# Altium integrated library TI Amplifiers and Linear Operational Amplifier Fully Differential Amplifier.IntLib: 262 symbols (part 4 of 11)
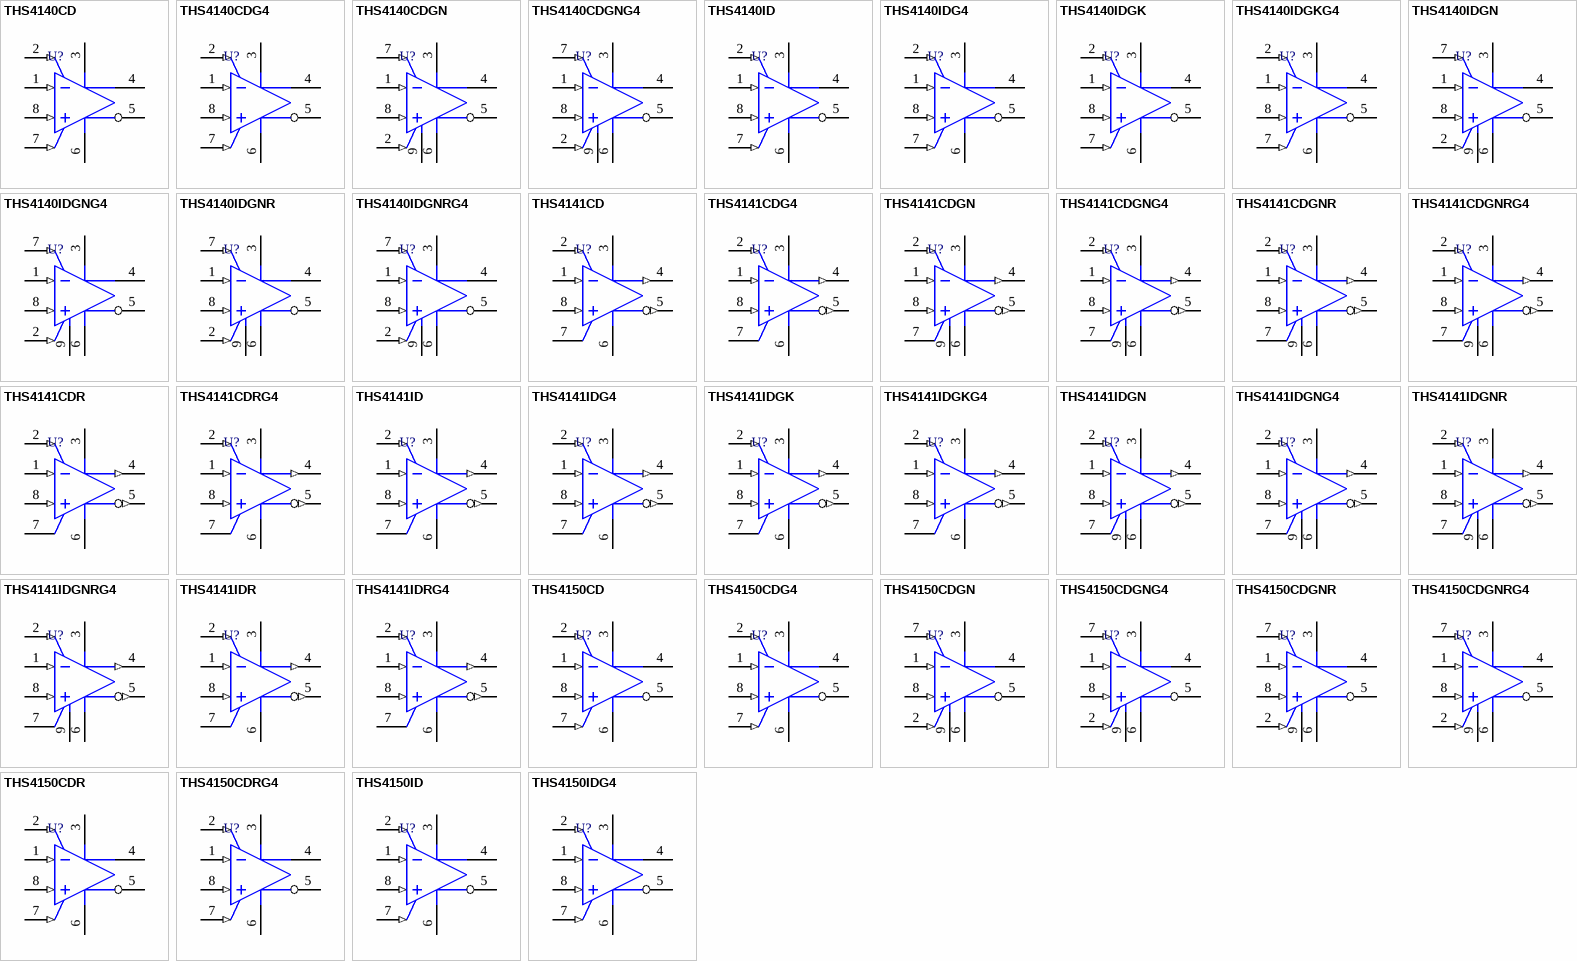
[diagram p10: symbols THS4140CD to THS4150IDG4]

## THS4140CDG4
designator U?
Fully Differential Input / Output High Slew Rate Amplifier with Shutdown, 5 to 30 V, 0 to 70 degC, 8-pin SOIC (D8), Green (RoHS & no Sb/Br); Manufacturer: Texas Instruments; PartNumber: THS4140CDG4; 2nd Harmonic(dBc): 85; 3rd Harmonic(dBc): 79; @ MHz: 1; BW @ Acl(MHz): 160; Iq per channel(Max)(mA): 16; Offset Voltage Drift (+/-)(Max)(uV/Degrees Celsius: 7; Settling Time (0.1%)(Typ)(ns): 96; Slew Rate(Typ)(V/us): 450; SubFamily: Fully Differential Amplifier; THD (Fc is 1 MHz)(Typ)(dB): -78; Vn at Flatband(Typ)(nV/rtHz): 6.5; Vs(Max)(V): 30; Vs(Min)(V): 5; DatasheetVersion: SLOS320F; PackageVersion: 4040047-3/M, 06/2011; PackageReference: D8; PackageDescription: 8-Pin Plastic Small Outline, Body 4.9 x 3.9 mm, Pitch 1.27 mm; Supplier 1: Digi-Key; Supplier Part Number 1: THS4140CDG4-ND; Supplier 2: Newark; Supplier Part Number 2: 81K4022; Supplier 3: Mouser; Supplier Part Number 3: 595-THS4140CDG4; Eco-Plan: Green (RoHS & no Sb/Br); Io(Typ)(mA): 85; Number of Channels: 1; Vio(Max)(mV): 7; Mounting Technology: Surface Mount; Code_JEDEC: MS-012; ComponentLink1Description: Manufacturer URL; ComponentLink1URL: http://www.ti.com/; ComponentLink2Description: Datasheet; ComponentLink2URL: http://www.ti.com/general/docs/lit/getliterature.tsp?genericPartNumber=THS4140&fileType=pdf; ComponentLink3Description: Package Specification; ComponentLink3URL: http://www.ti.com/litv/pdf/msoi002j
footprint TI-D8_N (SOIC, 8-Leads, Body 4.9x3.9mm, Pitch 1.27mm, IPC Medium Density)
footprint TI-D8_L (SOIC, 8-Leads, Body 4.9x3.9mm, Pitch 1.27mm, IPC High Density)
footprint TI-D8_M (SOIC, 8-Leads, Body 4.9x3.9mm, Pitch 1.27mm, IPC Low Density)
pins: 1 VIN- (in), 2 VOCM (in), 3 VCC+ (power), 4 VOUT+ (hiz), 5 VOUT- (hiz), 6 VCC- (power), 7 ~{PD} (in), 8 VIN+ (in)

## THS4140CDGN
designator U?
Fully Differential Input / Output High Slew Rate Amplifier with Shutdown, 5 to 30 V, 0 to 70 degC, 8-pin SOP (DGN8), Green (RoHS & no Sb/Br); Manufacturer: Texas Instruments; PartNumber: THS4140CDGN; 2nd Harmonic(dBc): 85; 3rd Harmonic(dBc): 79; @ MHz: 1; BW @ Acl(MHz): 160; Iq per channel(Max)(mA): 16; Offset Voltage Drift (+/-)(Max)(uV/Degrees Celsius: 7; Settling Time (0.1%)(Typ)(ns): 96; Slew Rate(Typ)(V/us): 450; SubFamily: Fully Differential Amplifier; THD (Fc is 1 MHz)(Typ)(dB): -78; Vn at Flatband(Typ)(nV/rtHz): 6.5; Vs(Max)(V): 30; Vs(Min)(V): 5; DatasheetVersion: SLOS320F; PackageVersion: 4073271/F, 05/2011; PackageReference: DGN8-1760X1425TP; PackageDescription: 8-Pin Plastic Small Outline, Body 3 x 3 mm, Pitch 0.65 mm; Supplier 1: Digi-Key; Supplier Part Number 1: THS4140CDGN-ND; Supplier 2: Mouser; Supplier Part Number 2: 595-THS4140CDGN; Eco-Plan: Green (RoHS & no Sb/Br); Io(Typ)(mA): 85; Number of Channels: 1; Vio(Max)(mV): 7; Mounting Technology: Surface Mount; Code_JEDEC: MO-187; ComponentLink1Description: Manufacturer URL; ComponentLink1URL: http://www.ti.com/; ComponentLink2Description: Datasheet; ComponentLink2URL: http://www.ti.com/general/docs/lit/getliterature.tsp?genericPartNumber=THS4140&fileType=pdf; ComponentLink3Description: Package Specification; ComponentLink3URL: http://www.ti.com/litv/pdf/mpds046e
footprint TI-DGN8-1760X1425TP_N (SOP, 8-Leads, Body 3x3mm, Pitch 0.65mm, Thermal Pad 1.76x1.425mm, IPC Medium Density)
footprint TI-DGN8-1760X1425TP_L (SOP, 8-Leads, Body 3x3mm, Pitch 0.65mm, Thermal Pad 1.76x1.425mm, IPC High Density)
footprint TI-DGN8-1760X1425TP_M (SOP, 8-Leads, Body 3x3mm, Pitch 0.65mm, Thermal Pad 1.76 x 1.425 mm, IPC Low Density)
pins: 1 VIN- (in), 2 VOCM (in), 3 VCC+ (power), 4 VOUT+ (hiz), 5 VOUT- (hiz), 6 VCC- (power), 7 ~{PD} (in), 8 VIN+ (in), 9 EP

## THS4140CDGNG4
designator U?
Fully Differential Input / Output High Slew Rate Amplifier with Shutdown, 5 to 30 V, 0 to 70 degC, 8-pin SOP (DGN8), Green (RoHS & no Sb/Br); Manufacturer: Texas Instruments; PartNumber: THS4140CDGNG4; 2nd Harmonic(dBc): 85; 3rd Harmonic(dBc): 79; @ MHz: 1; BW @ Acl(MHz): 160; Iq per channel(Max)(mA): 16; Offset Voltage Drift (+/-)(Max)(uV/Degrees Celsius: 7; Settling Time (0.1%)(Typ)(ns): 96; Slew Rate(Typ)(V/us): 450; SubFamily: Fully Differential Amplifier; THD (Fc is 1 MHz)(Typ)(dB): -78; Vn at Flatband(Typ)(nV/rtHz): 6.5; Vs(Max)(V): 30; Vs(Min)(V): 5; DatasheetVersion: SLOS320F; PackageVersion: 4073271/F, 05/2011; PackageReference: DGN8-1760X1425TP; PackageDescription: 8-Pin Plastic Small Outline, Body 3 x 3 mm, Pitch 0.65 mm; Supplier 1: Digi-Key; Supplier Part Number 1: THS4140CDGNG4-ND; Supplier 2: Mouser; Supplier Part Number 2: 595-THS4140CDGNG4; Eco-Plan: Green (RoHS & no Sb/Br); Io(Typ)(mA): 85; Number of Channels: 1; Vio(Max)(mV): 7; Mounting Technology: Surface Mount; Code_JEDEC: MO-187; ComponentLink1Description: Manufacturer URL; ComponentLink1URL: http://www.ti.com/; ComponentLink2Description: Datasheet; ComponentLink2URL: http://www.ti.com/general/docs/lit/getliterature.tsp?genericPartNumber=THS4140&fileType=pdf; ComponentLink3Description: Package Specification; ComponentLink3URL: http://www.ti.com/litv/pdf/mpds046e
footprint TI-DGN8-1760X1425TP_N (SOP, 8-Leads, Body 3x3mm, Pitch 0.65mm, Thermal Pad 1.76x1.425mm, IPC Medium Density)
footprint TI-DGN8-1760X1425TP_L (SOP, 8-Leads, Body 3x3mm, Pitch 0.65mm, Thermal Pad 1.76x1.425mm, IPC High Density)
footprint TI-DGN8-1760X1425TP_M (SOP, 8-Leads, Body 3x3mm, Pitch 0.65mm, Thermal Pad 1.76 x 1.425 mm, IPC Low Density)
pins: 1 VIN- (in), 2 VOCM (in), 3 VCC+ (power), 4 VOUT+ (hiz), 5 VOUT- (hiz), 6 VCC- (power), 7 ~{PD} (in), 8 VIN+ (in), 9 EP

## THS4140ID
designator U?
Fully Differential Input / Output High Slew Rate Amplifier with Shutdown, 5 to 30 V, -40 to 85 degC, 8-pin SOIC (D8), Green (RoHS & no Sb/Br); Manufacturer: Texas Instruments; PartNumber: THS4140ID; 2nd Harmonic(dBc): 85; 3rd Harmonic(dBc): 79; @ MHz: 1; BW @ Acl(MHz): 160; Iq per channel(Max)(mA): 16; Offset Voltage Drift (+/-)(Max)(uV/Degrees Celsius: 7; Settling Time (0.1%)(Typ)(ns): 96; Slew Rate(Typ)(V/us): 450; SubFamily: Fully Differential Amplifier; THD (Fc is 1 MHz)(Typ)(dB): -78; Vn at Flatband(Typ)(nV/rtHz): 6.5; Vs(Max)(V): 30; Vs(Min)(V): 5; DatasheetVersion: SLOS320F; PackageVersion: 4040047-3/M, 06/2011; PackageReference: D8; PackageDescription: 8-Pin Plastic Small Outline, Body 4.9 x 3.9 mm, Pitch 1.27 mm; Supplier 1: Digi-Key; Supplier Part Number 1: 296-7555-5-ND; Supplier 2: Newark; Supplier Part Number 2: 76C6420; Supplier 3: Mouser; Supplier Part Number 3: 595-THS4140ID; Eco-Plan: Green (RoHS & no Sb/Br); Io(Typ)(mA): 85; Number of Channels: 1; Vio(Max)(mV): 7; Mounting Technology: Surface Mount; Code_JEDEC: MS-012; ComponentLink1Description: Manufacturer URL; ComponentLink1URL: http://www.ti.com/; ComponentLink2Description: Datasheet; ComponentLink2URL: http://www.ti.com/general/docs/lit/getliterature.tsp?genericPartNumber=THS4140&fileType=pdf; ComponentLink3Description: Package Specification; ComponentLink3URL: http://www.ti.com/litv/pdf/msoi002j
footprint TI-D8_N (SOIC, 8-Leads, Body 4.9x3.9mm, Pitch 1.27mm, IPC Medium Density)
footprint TI-D8_L (SOIC, 8-Leads, Body 4.9x3.9mm, Pitch 1.27mm, IPC High Density)
footprint TI-D8_M (SOIC, 8-Leads, Body 4.9x3.9mm, Pitch 1.27mm, IPC Low Density)
pins: 1 VIN- (in), 2 VOCM (in), 3 VCC+ (power), 4 VOUT+ (hiz), 5 VOUT- (hiz), 6 VCC- (power), 7 ~{PD} (in), 8 VIN+ (in)

## THS4140IDG4
designator U?
Fully Differential Input / Output High Slew Rate Amplifier with Shutdown, 5 to 30 V, -40 to 85 degC, 8-pin SOIC (D8), Green (RoHS & no Sb/Br); Manufacturer: Texas Instruments; PartNumber: THS4140IDG4; 2nd Harmonic(dBc): 85; 3rd Harmonic(dBc): 79; @ MHz: 1; BW @ Acl(MHz): 160; Iq per channel(Max)(mA): 16; Offset Voltage Drift (+/-)(Max)(uV/Degrees Celsius: 7; Settling Time (0.1%)(Typ)(ns): 96; Slew Rate(Typ)(V/us): 450; SubFamily: Fully Differential Amplifier; THD (Fc is 1 MHz)(Typ)(dB): -78; Vn at Flatband(Typ)(nV/rtHz): 6.5; Vs(Max)(V): 30; Vs(Min)(V): 5; DatasheetVersion: SLOS320F; PackageVersion: 4040047-3/M, 06/2011; PackageReference: D8; PackageDescription: 8-Pin Plastic Small Outline, Body 4.9 x 3.9 mm, Pitch 1.27 mm; Supplier 1: Digi-Key; Supplier Part Number 1: THS4140IDG4-ND; Supplier 2: Mouser; Supplier Part Number 2: 595-THS4140IDG4; Eco-Plan: Green (RoHS & no Sb/Br); Io(Typ)(mA): 85; Number of Channels: 1; Vio(Max)(mV): 7; Mounting Technology: Surface Mount; Code_JEDEC: MS-012; ComponentLink1Description: Manufacturer URL; ComponentLink1URL: http://www.ti.com/; ComponentLink2Description: Datasheet; ComponentLink2URL: http://www.ti.com/general/docs/lit/getliterature.tsp?genericPartNumber=THS4140&fileType=pdf; ComponentLink3Description: Package Specification; ComponentLink3URL: http://www.ti.com/litv/pdf/msoi002j
footprint TI-D8_N (SOIC, 8-Leads, Body 4.9x3.9mm, Pitch 1.27mm, IPC Medium Density)
footprint TI-D8_L (SOIC, 8-Leads, Body 4.9x3.9mm, Pitch 1.27mm, IPC High Density)
footprint TI-D8_M (SOIC, 8-Leads, Body 4.9x3.9mm, Pitch 1.27mm, IPC Low Density)
pins: 1 VIN- (in), 2 VOCM (in), 3 VCC+ (power), 4 VOUT+ (hiz), 5 VOUT- (hiz), 6 VCC- (power), 7 ~{PD} (in), 8 VIN+ (in)

## THS4140IDGK
designator U?
Fully Differential Input / Output High Slew Rate Amplifier with Shutdown, 5 to 30 V, -40 to 85 degC, 8-pin SOP (DGK8), Green (RoHS & no Sb/Br); Manufacturer: Texas Instruments; PartNumber: THS4140IDGK; 2nd Harmonic(dBc): 85; 3rd Harmonic(dBc): 79; @ MHz: 1; BW @ Acl(MHz): 160; Iq per channel(Max)(mA): 16; Offset Voltage Drift (+/-)(Max)(uV/Degrees Celsius: 7; Settling Time (0.1%)(Typ)(ns): 96; Slew Rate(Typ)(V/us): 450; SubFamily: Fully Differential Amplifier; THD (Fc is 1 MHz)(Typ)(dB): -78; Vn at Flatband(Typ)(nV/rtHz): 6.5; Vs(Max)(V): 30; Vs(Min)(V): 5; DatasheetVersion: SLOS320F; PackageVersion: 4073329/E, 05/2006; PackageReference: DGK8; PackageDescription: 8-Pin Thin Small Outline, Body 3 x 3 mm, Pitch 0.65 mm; Supplier 1: Digi-Key; Supplier Part Number 1: 296-16778-5-ND; Supplier 2: Newark; Supplier Part Number 2: 01J0851; Supplier 3: Mouser; Supplier Part Number 3: 595-THS4140IDGK; Eco-Plan: Green (RoHS & no Sb/Br); Io(Typ)(mA): 85; Number of Channels: 1; Vio(Max)(mV): 7; Mounting Technology: Surface Mount; Code_JEDEC: MO-187; ComponentLink1Description: Manufacturer URL; ComponentLink1URL: http://www.ti.com/; ComponentLink2Description: Datasheet; ComponentLink2URL: http://www.ti.com/general/docs/lit/getliterature.tsp?genericPartNumber=THS4140&fileType=pdf; ComponentLink3Description: Package Specification; ComponentLink3URL: http://www.ti.com/litv/pdf/mpds028d
footprint TI-DGK8_N (SOP, 8-Leads, Body 3x3mm, Pitch 0.65mm, IPC Medium Density)
footprint TI-DGK8_L (SOP, 8-Leads, Body 3x3mm, Pitch 0.65mm, IPC High Density)
footprint TI-DGK8_M (SOP, 8-Leads, Body 3x3mm, Pitch 0.65mm, IPC Low Density)
pins: 1 VIN- (in), 2 VOCM (in), 3 VCC+ (power), 4 VOUT+ (hiz), 5 VOUT- (hiz), 6 VCC- (power), 7 ~{PD} (in), 8 VIN+ (in)

## THS4140IDGKG4
designator U?
Fully Differential Input / Output High Slew Rate Amplifier with Shutdown, 5 to 30 V, -40 to 85 degC, 8-pin SOP (DGK8), Green (RoHS & no Sb/Br); Manufacturer: Texas Instruments; PartNumber: THS4140IDGKG4; 2nd Harmonic(dBc): 85; 3rd Harmonic(dBc): 79; @ MHz: 1; BW @ Acl(MHz): 160; Iq per channel(Max)(mA): 16; Offset Voltage Drift (+/-)(Max)(uV/Degrees Celsius: 7; Settling Time (0.1%)(Typ)(ns): 96; Slew Rate(Typ)(V/us): 450; SubFamily: Fully Differential Amplifier; THD (Fc is 1 MHz)(Typ)(dB): -78; Vn at Flatband(Typ)(nV/rtHz): 6.5; Vs(Max)(V): 30; Vs(Min)(V): 5; DatasheetVersion: SLOS320F; PackageVersion: 4073329/E, 05/2006; PackageReference: DGK8; PackageDescription: 8-Pin Thin Small Outline, Body 3 x 3 mm, Pitch 0.65 mm; Supplier 1: Digi-Key; Supplier Part Number 1: THS4140IDGKG4-ND; Supplier 2: Newark; Supplier Part Number 2: 81K4023; Supplier 3: Mouser; Supplier Part Number 3: 595-THS4140IDGKG4; Eco-Plan: Green (RoHS & no Sb/Br); Io(Typ)(mA): 85; Number of Channels: 1; Vio(Max)(mV): 7; Mounting Technology: Surface Mount; Code_JEDEC: MO-187; ComponentLink1Description: Manufacturer URL; ComponentLink1URL: http://www.ti.com/; ComponentLink2Description: Datasheet; ComponentLink2URL: http://www.ti.com/general/docs/lit/getliterature.tsp?genericPartNumber=THS4140&fileType=pdf; ComponentLink3Description: Package Specification; ComponentLink3URL: http://www.ti.com/litv/pdf/mpds028d
footprint TI-DGK8_N (SOP, 8-Leads, Body 3x3mm, Pitch 0.65mm, IPC Medium Density)
footprint TI-DGK8_L (SOP, 8-Leads, Body 3x3mm, Pitch 0.65mm, IPC High Density)
footprint TI-DGK8_M (SOP, 8-Leads, Body 3x3mm, Pitch 0.65mm, IPC Low Density)
pins: 1 VIN- (in), 2 VOCM (in), 3 VCC+ (power), 4 VOUT+ (hiz), 5 VOUT- (hiz), 6 VCC- (power), 7 ~{PD} (in), 8 VIN+ (in)

## THS4140IDGN
designator U?
Fully Differential Input / Output High Slew Rate Amplifier with Shutdown, 5 to 30 V, -40 to 85 degC, 8-pin SOP (DGN8), Green (RoHS & no Sb/Br); Manufacturer: Texas Instruments; PartNumber: THS4140IDGN; 2nd Harmonic(dBc): 85; 3rd Harmonic(dBc): 79; @ MHz: 1; BW @ Acl(MHz): 160; Iq per channel(Max)(mA): 16; Offset Voltage Drift (+/-)(Max)(uV/Degrees Celsius: 7; Settling Time (0.1%)(Typ)(ns): 96; Slew Rate(Typ)(V/us): 450; SubFamily: Fully Differential Amplifier; THD (Fc is 1 MHz)(Typ)(dB): -78; Vn at Flatband(Typ)(nV/rtHz): 6.5; Vs(Max)(V): 30; Vs(Min)(V): 5; DatasheetVersion: SLOS320F; PackageVersion: 4073271/F, 05/2011; PackageReference: DGN8-1760X1425TP; PackageDescription: 8-Pin Plastic Small Outline, Body 3 x 3 mm, Pitch 0.65 mm; Supplier 1: Digi-Key; Supplier Part Number 1: THS4140IDGN-ND; Supplier 2: Newark; Supplier Part Number 2: 76C6421; Supplier 3: Mouser; Supplier Part Number 3: 595-THS4140IDGN; Eco-Plan: Green (RoHS & no Sb/Br); Io(Typ)(mA): 85; Number of Channels: 1; Vio(Max)(mV): 7; Mounting Technology: Surface Mount; Code_JEDEC: MO-187; ComponentLink1Description: Manufacturer URL; ComponentLink1URL: http://www.ti.com/; ComponentLink2Description: Datasheet; ComponentLink2URL: http://www.ti.com/general/docs/lit/getliterature.tsp?genericPartNumber=THS4140&fileType=pdf; ComponentLink3Description: Package Specification; ComponentLink3URL: http://www.ti.com/litv/pdf/mpds046e
footprint TI-DGN8-1760X1425TP_N (SOP, 8-Leads, Body 3x3mm, Pitch 0.65mm, Thermal Pad 1.76x1.425mm, IPC Medium Density)
footprint TI-DGN8-1760X1425TP_L (SOP, 8-Leads, Body 3x3mm, Pitch 0.65mm, Thermal Pad 1.76x1.425mm, IPC High Density)
footprint TI-DGN8-1760X1425TP_M (SOP, 8-Leads, Body 3x3mm, Pitch 0.65mm, Thermal Pad 1.76 x 1.425 mm, IPC Low Density)
pins: 1 VIN- (in), 2 VOCM (in), 3 VCC+ (power), 4 VOUT+ (hiz), 5 VOUT- (hiz), 6 VCC- (power), 7 ~{PD} (in), 8 VIN+ (in), 9 EP

## THS4140IDGNG4
designator U?
Fully Differential Input / Output High Slew Rate Amplifier with Shutdown, 5 to 30 V, -40 to 85 degC, 8-pin SOP (DGN8), Green (RoHS & no Sb/Br); Manufacturer: Texas Instruments; PartNumber: THS4140IDGNG4; 2nd Harmonic(dBc): 85; 3rd Harmonic(dBc): 79; @ MHz: 1; BW @ Acl(MHz): 160; Iq per channel(Max)(mA): 16; Offset Voltage Drift (+/-)(Max)(uV/Degrees Celsius: 7; Settling Time (0.1%)(Typ)(ns): 96; Slew Rate(Typ)(V/us): 450; SubFamily: Fully Differential Amplifier; THD (Fc is 1 MHz)(Typ)(dB): -78; Vn at Flatband(Typ)(nV/rtHz): 6.5; Vs(Max)(V): 30; Vs(Min)(V): 5; DatasheetVersion: SLOS320F; PackageVersion: 4073271/F, 05/2011; PackageReference: DGN8-1760X1425TP; PackageDescription: 8-Pin Plastic Small Outline, Body 3 x 3 mm, Pitch 0.65 mm; Supplier 1: Digi-Key; Supplier Part Number 1: THS4140IDGNG4-ND; Supplier 2: Mouser; Supplier Part Number 2: 595-THS4140IDGNG4; Eco-Plan: Green (RoHS & no Sb/Br); Io(Typ)(mA): 85; Number of Channels: 1; Vio(Max)(mV): 7; Mounting Technology: Surface Mount; Code_JEDEC: MO-187; ComponentLink1Description: Manufacturer URL; ComponentLink1URL: http://www.ti.com/; ComponentLink2Description: Datasheet; ComponentLink2URL: http://www.ti.com/general/docs/lit/getliterature.tsp?genericPartNumber=THS4140&fileType=pdf; ComponentLink3Description: Package Specification; ComponentLink3URL: http://www.ti.com/litv/pdf/mpds046e
footprint TI-DGN8-1760X1425TP_N (SOP, 8-Leads, Body 3x3mm, Pitch 0.65mm, Thermal Pad 1.76x1.425mm, IPC Medium Density)
footprint TI-DGN8-1760X1425TP_L (SOP, 8-Leads, Body 3x3mm, Pitch 0.65mm, Thermal Pad 1.76x1.425mm, IPC High Density)
footprint TI-DGN8-1760X1425TP_M (SOP, 8-Leads, Body 3x3mm, Pitch 0.65mm, Thermal Pad 1.76 x 1.425 mm, IPC Low Density)
pins: 1 VIN- (in), 2 VOCM (in), 3 VCC+ (power), 4 VOUT+ (hiz), 5 VOUT- (hiz), 6 VCC- (power), 7 ~{PD} (in), 8 VIN+ (in), 9 EP

## THS4140IDGNR
designator U?
Fully Differential Input / Output High Slew Rate Amplifier with Shutdown, 5 to 30 V, -40 to 85 degC, 8-pin SOP (DGN8), Green (RoHS & no Sb/Br); Manufacturer: Texas Instruments; PartNumber: THS4140IDGNR; 2nd Harmonic(dBc): 85; 3rd Harmonic(dBc): 79; @ MHz: 1; BW @ Acl(MHz): 160; Iq per channel(Max)(mA): 16; Offset Voltage Drift (+/-)(Max)(uV/Degrees Celsius: 7; Settling Time (0.1%)(Typ)(ns): 96; Slew Rate(Typ)(V/us): 450; SubFamily: Fully Differential Amplifier; THD (Fc is 1 MHz)(Typ)(dB): -78; Vn at Flatband(Typ)(nV/rtHz): 6.5; Vs(Max)(V): 30; Vs(Min)(V): 5; DatasheetVersion: SLOS320F; PackageVersion: 4073271/F, 05/2011; PackageReference: DGN8-1760X1425TP; PackageDescription: 8-Pin Plastic Small Outline, Body 3 x 3 mm, Pitch 0.65 mm; Supplier 1: Digi-Key; Supplier Part Number 1: 296-10049-2-ND; Supplier 2: Digi-Key; Supplier Part Number 2: 296-10049-1-ND; Supplier 3: Digi-Key; Supplier Part Number 3: 296-10049-6-ND; Supplier 4: Newark; Supplier Part Number 4: 76C6422; Supplier 5: Mouser; Supplier Part Number 5: 595-THS4140IDGNR; Eco-Plan: Green (RoHS & no Sb/Br); Io(Typ)(mA): 85; Number of Channels: 1; Vio(Max)(mV): 7; Mounting Technology: Surface Mount; Code_JEDEC: MO-187; ComponentLink1Description: Manufacturer URL; ComponentLink1URL: http://www.ti.com/; ComponentLink2Description: Datasheet; ComponentLink2URL: http://www.ti.com/general/docs/lit/getliterature.tsp?genericPartNumber=THS4140&fileType=pdf; ComponentLink3Description: Package Specification; ComponentLink3URL: http://www.ti.com/litv/pdf/mpds046e
footprint TI-DGN8-1760X1425TP_N (SOP, 8-Leads, Body 3x3mm, Pitch 0.65mm, Thermal Pad 1.76x1.425mm, IPC Medium Density)
footprint TI-DGN8-1760X1425TP_L (SOP, 8-Leads, Body 3x3mm, Pitch 0.65mm, Thermal Pad 1.76x1.425mm, IPC High Density)
footprint TI-DGN8-1760X1425TP_M (SOP, 8-Leads, Body 3x3mm, Pitch 0.65mm, Thermal Pad 1.76 x 1.425 mm, IPC Low Density)
pins: 1 VIN- (in), 2 VOCM (in), 3 VCC+ (power), 4 VOUT+ (hiz), 5 VOUT- (hiz), 6 VCC- (power), 7 ~{PD} (in), 8 VIN+ (in), 9 EP

## THS4140IDGNRG4
designator U?
Fully Differential Input / Output High Slew Rate Amplifier with Shutdown, 5 to 30 V, -40 to 85 degC, 8-pin SOP (DGN8), Green (RoHS & no Sb/Br); Manufacturer: Texas Instruments; PartNumber: THS4140IDGNRG4; 2nd Harmonic(dBc): 85; 3rd Harmonic(dBc): 79; @ MHz: 1; BW @ Acl(MHz): 160; Iq per channel(Max)(mA): 16; Offset Voltage Drift (+/-)(Max)(uV/Degrees Celsius: 7; Settling Time (0.1%)(Typ)(ns): 96; Slew Rate(Typ)(V/us): 450; SubFamily: Fully Differential Amplifier; THD (Fc is 1 MHz)(Typ)(dB): -78; Vn at Flatband(Typ)(nV/rtHz): 6.5; Vs(Max)(V): 30; Vs(Min)(V): 5; DatasheetVersion: SLOS320F; PackageVersion: 4073271/F, 05/2011; PackageReference: DGN8-1760X1425TP; PackageDescription: 8-Pin Plastic Small Outline, Body 3 x 3 mm, Pitch 0.65 mm; Supplier 1: Digi-Key; Supplier Part Number 1: THS4140IDGNRG4-ND; Supplier 2: Newark; Supplier Part Number 2: 24K5003; Supplier 3: Mouser; Supplier Part Number 3: 595-THS4140IDGNRG4; Eco-Plan: Green (RoHS & no Sb/Br); Io(Typ)(mA): 85; Number of Channels: 1; Vio(Max)(mV): 7; Mounting Technology: Surface Mount; Code_JEDEC: MO-187; ComponentLink1Description: Manufacturer URL; ComponentLink1URL: http://www.ti.com/; ComponentLink2Description: Datasheet; ComponentLink2URL: http://www.ti.com/general/docs/lit/getliterature.tsp?genericPartNumber=THS4140&fileType=pdf; ComponentLink3Description: Package Specification; ComponentLink3URL: http://www.ti.com/litv/pdf/mpds046e
footprint TI-DGN8-1760X1425TP_N (SOP, 8-Leads, Body 3x3mm, Pitch 0.65mm, Thermal Pad 1.76x1.425mm, IPC Medium Density)
footprint TI-DGN8-1760X1425TP_L (SOP, 8-Leads, Body 3x3mm, Pitch 0.65mm, Thermal Pad 1.76x1.425mm, IPC High Density)
footprint TI-DGN8-1760X1425TP_M (SOP, 8-Leads, Body 3x3mm, Pitch 0.65mm, Thermal Pad 1.76 x 1.425 mm, IPC Low Density)
pins: 1 VIN- (in), 2 VOCM (in), 3 VCC+ (power), 4 VOUT+ (hiz), 5 VOUT- (hiz), 6 VCC- (power), 7 ~{PD} (in), 8 VIN+ (in), 9 EP

## THS4141CD
designator U?
Fully Differential Input / Output High Slew Rate Amplifier, 5 to 30 V, 0 to 70 degC, 8-pin SOIC (D8), Green (RoHS & no Sb/Br); Manufacturer: Texas Instruments; PartNumber: THS4141CD; 2nd Harmonic(dBc): 85; 3rd Harmonic(dBc): 79; @ MHz: 1; BW @ Acl(MHz): 160; Iq per channel(Max)(mA): 16; Offset Voltage Drift (+/-)(Max)(uV/Degrees Celsius: 7; Settling Time (0.1%)(Typ)(ns): 96; Slew Rate(Typ)(V/us): 450; SubFamily: Fully Differential Amplifier; THD (Fc is 1 MHz)(Typ)(dB): -78; Vn at Flatband(Typ)(nV/rtHz): 6.5; Vs(Max)(V): 30; Vs(Min)(V): 5; DatasheetVersion: SLOS320F; PackageVersion: 4040047-3/M, 06/2011; PackageReference: D8; PackageDescription: 8-Pin Plastic Small Outline, Body 4.9 x 3.9 mm, Pitch 1.27 mm; Supplier 1: Digi-Key; Supplier Part Number 1: 296-34218-5-ND; Supplier 2: Newark; Supplier Part Number 2: 76C6424; Supplier 3: Mouser; Supplier Part Number 3: 595-THS4141CD; Eco-Plan: Green (RoHS & no Sb/Br); Io(Typ)(mA): 85; Number of Channels: 1; Vio(Max)(mV): 7; Mounting Technology: Surface Mount; Code_JEDEC: MS-012; ComponentLink1Description: Manufacturer URL; ComponentLink1URL: http://www.ti.com/; ComponentLink2Description: Datasheet; ComponentLink2URL: http://www.ti.com/general/docs/lit/getliterature.tsp?genericPartNumber=THS4141&fileType=pdf; ComponentLink3Description: Package Specification; ComponentLink3URL: http://www.ti.com/litv/pdf/msoi002j
footprint TI-D8_N (SOIC, 8-Leads, Body 4.9x3.9mm, Pitch 1.27mm, IPC Medium Density)
footprint TI-D8_L (SOIC, 8-Leads, Body 4.9x3.9mm, Pitch 1.27mm, IPC High Density)
footprint TI-D8_M (SOIC, 8-Leads, Body 4.9x3.9mm, Pitch 1.27mm, IPC Low Density)
pins: 1 VIN- (in), 2 VOCM (in), 3 VCC+ (power), 4 VOUT+ (out), 5 VOUT- (out), 6 VCC- (power), 7 NC, 8 VIN+ (in)

## THS4141CDG4
designator U?
Fully Differential Input / Output High Slew Rate Amplifier, 5 to 30 V, 0 to 70 degC, 8-pin SOIC (D8), Green (RoHS & no Sb/Br); Manufacturer: Texas Instruments; PartNumber: THS4141CDG4; 2nd Harmonic(dBc): 85; 3rd Harmonic(dBc): 79; @ MHz: 1; BW @ Acl(MHz): 160; Iq per channel(Max)(mA): 16; Offset Voltage Drift (+/-)(Max)(uV/Degrees Celsius: 7; Settling Time (0.1%)(Typ)(ns): 96; Slew Rate(Typ)(V/us): 450; SubFamily: Fully Differential Amplifier; THD (Fc is 1 MHz)(Typ)(dB): -78; Vn at Flatband(Typ)(nV/rtHz): 6.5; Vs(Max)(V): 30; Vs(Min)(V): 5; DatasheetVersion: SLOS320F; PackageVersion: 4040047-3/M, 06/2011; PackageReference: D8; PackageDescription: 8-Pin Plastic Small Outline, Body 4.9 x 3.9 mm, Pitch 1.27 mm; Supplier 1: Digi-Key; Supplier Part Number 1: THS4141CDG4-ND; Supplier 2: Mouser; Supplier Part Number 2: 595-THS4141CDG4; Eco-Plan: Green (RoHS & no Sb/Br); Io(Typ)(mA): 85; Number of Channels: 1; Vio(Max)(mV): 7; Mounting Technology: Surface Mount; Code_JEDEC: MS-012; ComponentLink1Description: Manufacturer URL; ComponentLink1URL: http://www.ti.com/; ComponentLink2Description: Datasheet; ComponentLink2URL: http://www.ti.com/general/docs/lit/getliterature.tsp?genericPartNumber=THS4141&fileType=pdf; ComponentLink3Description: Package Specification; ComponentLink3URL: http://www.ti.com/litv/pdf/msoi002j
footprint TI-D8_N (SOIC, 8-Leads, Body 4.9x3.9mm, Pitch 1.27mm, IPC Medium Density)
footprint TI-D8_L (SOIC, 8-Leads, Body 4.9x3.9mm, Pitch 1.27mm, IPC High Density)
footprint TI-D8_M (SOIC, 8-Leads, Body 4.9x3.9mm, Pitch 1.27mm, IPC Low Density)
pins: 1 VIN- (in), 2 VOCM (in), 3 VCC+ (power), 4 VOUT+ (out), 5 VOUT- (out), 6 VCC- (power), 7 NC, 8 VIN+ (in)

## THS4141CDGN
designator U?
Fully Differential Input / Output High Slew Rate Amplifier, 5 to 30 V, 0 to 70 degC, 8-pin SOP (DGN8), Green (RoHS & no Sb/Br); Manufacturer: Texas Instruments; PartNumber: THS4141CDGN; 2nd Harmonic(dBc): 85; 3rd Harmonic(dBc): 79; @ MHz: 1; BW @ Acl(MHz): 160; Iq per channel(Max)(mA): 16; Offset Voltage Drift (+/-)(Max)(uV/Degrees Celsius: 7; Settling Time (0.1%)(Typ)(ns): 96; Slew Rate(Typ)(V/us): 450; SubFamily: Fully Differential Amplifier; THD (Fc is 1 MHz)(Typ)(dB): -78; Vn at Flatband(Typ)(nV/rtHz): 6.5; Vs(Max)(V): 30; Vs(Min)(V): 5; DatasheetVersion: SLOS320F; PackageVersion: 4073271/F, 05/2011; PackageReference: DGN8-1760X1425TP; PackageDescription: 8-Pin Plastic Small Outline, Body 3 x 3 mm, Pitch 0.65 mm; Supplier 1: Digi-Key; Supplier Part Number 1: THS4141CDGN-ND; Supplier 2: Mouser; Supplier Part Number 2: 595-THS4141CDGN; Eco-Plan: Green (RoHS & no Sb/Br); Io(Typ)(mA): 85; Number of Channels: 1; Vio(Max)(mV): 7; Mounting Technology: Surface Mount; Code_JEDEC: MO-187; ComponentLink1Description: Manufacturer URL; ComponentLink1URL: http://www.ti.com/; ComponentLink2Description: Datasheet; ComponentLink2URL: http://www.ti.com/general/docs/lit/getliterature.tsp?genericPartNumber=THS4141&fileType=pdf; ComponentLink3Description: Package Specification; ComponentLink3URL: http://www.ti.com/litv/pdf/mpds046e
footprint TI-DGN8-1760X1425TP_N (SOP, 8-Leads, Body 3x3mm, Pitch 0.65mm, Thermal Pad 1.76x1.425mm, IPC Medium Density)
footprint TI-DGN8-1760X1425TP_L (SOP, 8-Leads, Body 3x3mm, Pitch 0.65mm, Thermal Pad 1.76x1.425mm, IPC High Density)
footprint TI-DGN8-1760X1425TP_M (SOP, 8-Leads, Body 3x3mm, Pitch 0.65mm, Thermal Pad 1.76 x 1.425 mm, IPC Low Density)
pins: 1 VIN- (in), 2 VOCM (in), 3 VCC+ (power), 4 VOUT+ (out), 5 VOUT- (out), 6 VCC- (power), 7 NC, 8 VIN+ (in), 9 EP

## THS4141CDGNG4
designator U?
Fully Differential Input / Output High Slew Rate Amplifier, 5 to 30 V, 0 to 70 degC, 8-pin SOP (DGN8), Green (RoHS & no Sb/Br); Manufacturer: Texas Instruments; PartNumber: THS4141CDGNG4; 2nd Harmonic(dBc): 85; 3rd Harmonic(dBc): 79; @ MHz: 1; BW @ Acl(MHz): 160; Iq per channel(Max)(mA): 16; Offset Voltage Drift (+/-)(Max)(uV/Degrees Celsius: 7; Settling Time (0.1%)(Typ)(ns): 96; Slew Rate(Typ)(V/us): 450; SubFamily: Fully Differential Amplifier; THD (Fc is 1 MHz)(Typ)(dB): -78; Vn at Flatband(Typ)(nV/rtHz): 6.5; Vs(Max)(V): 30; Vs(Min)(V): 5; DatasheetVersion: SLOS320F; PackageVersion: 4073271/F, 05/2011; PackageReference: DGN8-1760X1425TP; PackageDescription: 8-Pin Plastic Small Outline, Body 3 x 3 mm, Pitch 0.65 mm; Supplier 1: Digi-Key; Supplier Part Number 1: THS4141CDGNG4-ND; Supplier 2: Mouser; Supplier Part Number 2: 595-THS4141CDGNG4; Eco-Plan: Green (RoHS & no Sb/Br); Io(Typ)(mA): 85; Number of Channels: 1; Vio(Max)(mV): 7; Mounting Technology: Surface Mount; Code_JEDEC: MO-187; ComponentLink1Description: Manufacturer URL; ComponentLink1URL: http://www.ti.com/; ComponentLink2Description: Datasheet; ComponentLink2URL: http://www.ti.com/general/docs/lit/getliterature.tsp?genericPartNumber=THS4141&fileType=pdf; ComponentLink3Description: Package Specification; ComponentLink3URL: http://www.ti.com/litv/pdf/mpds046e
footprint TI-DGN8-1760X1425TP_N (SOP, 8-Leads, Body 3x3mm, Pitch 0.65mm, Thermal Pad 1.76x1.425mm, IPC Medium Density)
footprint TI-DGN8-1760X1425TP_L (SOP, 8-Leads, Body 3x3mm, Pitch 0.65mm, Thermal Pad 1.76x1.425mm, IPC High Density)
footprint TI-DGN8-1760X1425TP_M (SOP, 8-Leads, Body 3x3mm, Pitch 0.65mm, Thermal Pad 1.76 x 1.425 mm, IPC Low Density)
pins: 1 VIN- (in), 2 VOCM (in), 3 VCC+ (power), 4 VOUT+ (out), 5 VOUT- (out), 6 VCC- (power), 7 NC, 8 VIN+ (in), 9 EP

## THS4141CDGNR
designator U?
Fully Differential Input / Output High Slew Rate Amplifier, 5 to 30 V, 0 to 70 degC, 8-pin SOP (DGN8), Green (RoHS & no Sb/Br); Manufacturer: Texas Instruments; PartNumber: THS4141CDGNR; 2nd Harmonic(dBc): 85; 3rd Harmonic(dBc): 79; @ MHz: 1; BW @ Acl(MHz): 160; Iq per channel(Max)(mA): 16; Offset Voltage Drift (+/-)(Max)(uV/Degrees Celsius: 7; Settling Time (0.1%)(Typ)(ns): 96; Slew Rate(Typ)(V/us): 450; SubFamily: Fully Differential Amplifier; THD (Fc is 1 MHz)(Typ)(dB): -78; Vn at Flatband(Typ)(nV/rtHz): 6.5; Vs(Max)(V): 30; Vs(Min)(V): 5; DatasheetVersion: SLOS320F; PackageVersion: 4073271/F, 05/2011; PackageReference: DGN8-1760X1425TP; PackageDescription: 8-Pin Plastic Small Outline, Body 3 x 3 mm, Pitch 0.65 mm; Supplier 1: Digi-Key; Supplier Part Number 1: THS4141CDGNR-ND; Supplier 2: Newark; Supplier Part Number 2: 76C6426; Supplier 3: Mouser; Supplier Part Number 3: 595-THS4141CDGNR; Eco-Plan: Green (RoHS & no Sb/Br); Io(Typ)(mA): 85; Number of Channels: 1; Vio(Max)(mV): 7; Mounting Technology: Surface Mount; Code_JEDEC: MO-187; ComponentLink1Description: Manufacturer URL; ComponentLink1URL: http://www.ti.com/; ComponentLink2Description: Datasheet; ComponentLink2URL: http://www.ti.com/general/docs/lit/getliterature.tsp?genericPartNumber=THS4141&fileType=pdf; ComponentLink3Description: Package Specification; ComponentLink3URL: http://www.ti.com/litv/pdf/mpds046e
footprint TI-DGN8-1760X1425TP_N (SOP, 8-Leads, Body 3x3mm, Pitch 0.65mm, Thermal Pad 1.76x1.425mm, IPC Medium Density)
footprint TI-DGN8-1760X1425TP_L (SOP, 8-Leads, Body 3x3mm, Pitch 0.65mm, Thermal Pad 1.76x1.425mm, IPC High Density)
footprint TI-DGN8-1760X1425TP_M (SOP, 8-Leads, Body 3x3mm, Pitch 0.65mm, Thermal Pad 1.76 x 1.425 mm, IPC Low Density)
pins: 1 VIN- (in), 2 VOCM (in), 3 VCC+ (power), 4 VOUT+ (out), 5 VOUT- (out), 6 VCC- (power), 7 NC, 8 VIN+ (in), 9 EP

## THS4141CDGNRG4
designator U?
Fully Differential Input / Output High Slew Rate Amplifier, 5 to 30 V, 0 to 70 degC, 8-pin SOP (DGN8), Green (RoHS & no Sb/Br); Manufacturer: Texas Instruments; PartNumber: THS4141CDGNRG4; 2nd Harmonic(dBc): 85; 3rd Harmonic(dBc): 79; @ MHz: 1; BW @ Acl(MHz): 160; Iq per channel(Max)(mA): 16; Offset Voltage Drift (+/-)(Max)(uV/Degrees Celsius: 7; Settling Time (0.1%)(Typ)(ns): 96; Slew Rate(Typ)(V/us): 450; SubFamily: Fully Differential Amplifier; THD (Fc is 1 MHz)(Typ)(dB): -78; Vn at Flatband(Typ)(nV/rtHz): 6.5; Vs(Max)(V): 30; Vs(Min)(V): 5; DatasheetVersion: SLOS320F; PackageVersion: 4073271/F, 05/2011; PackageReference: DGN8-1760X1425TP; PackageDescription: 8-Pin Plastic Small Outline, Body 3 x 3 mm, Pitch 0.65 mm; Supplier 1: Digi-Key; Supplier Part Number 1: THS4141CDGNRG4-ND; Supplier 2: Mouser; Supplier Part Number 2: 595-THS4141CDGNRG4; Eco-Plan: Green (RoHS & no Sb/Br); Io(Typ)(mA): 85; Number of Channels: 1; Vio(Max)(mV): 7; Mounting Technology: Surface Mount; Code_JEDEC: MO-187; ComponentLink1Description: Manufacturer URL; ComponentLink1URL: http://www.ti.com/; ComponentLink2Description: Datasheet; ComponentLink2URL: http://www.ti.com/general/docs/lit/getliterature.tsp?genericPartNumber=THS4141&fileType=pdf; ComponentLink3Description: Package Specification; ComponentLink3URL: http://www.ti.com/litv/pdf/mpds046e
footprint TI-DGN8-1760X1425TP_N (SOP, 8-Leads, Body 3x3mm, Pitch 0.65mm, Thermal Pad 1.76x1.425mm, IPC Medium Density)
footprint TI-DGN8-1760X1425TP_L (SOP, 8-Leads, Body 3x3mm, Pitch 0.65mm, Thermal Pad 1.76x1.425mm, IPC High Density)
footprint TI-DGN8-1760X1425TP_M (SOP, 8-Leads, Body 3x3mm, Pitch 0.65mm, Thermal Pad 1.76 x 1.425 mm, IPC Low Density)
pins: 1 VIN- (in), 2 VOCM (in), 3 VCC+ (power), 4 VOUT+ (out), 5 VOUT- (out), 6 VCC- (power), 7 NC, 8 VIN+ (in), 9 EP

## THS4141CDR
designator U?
Fully Differential Input / Output High Slew Rate Amplifier, 5 to 30 V, 0 to 70 degC, 8-pin SOIC (D8), Green (RoHS & no Sb/Br); Manufacturer: Texas Instruments; PartNumber: THS4141CDR; 2nd Harmonic(dBc): 85; 3rd Harmonic(dBc): 79; @ MHz: 1; BW @ Acl(MHz): 160; Iq per channel(Max)(mA): 16; Offset Voltage Drift (+/-)(Max)(uV/Degrees Celsius: 7; Settling Time (0.1%)(Typ)(ns): 96; Slew Rate(Typ)(V/us): 450; SubFamily: Fully Differential Amplifier; THD (Fc is 1 MHz)(Typ)(dB): -78; Vn at Flatband(Typ)(nV/rtHz): 6.5; Vs(Max)(V): 30; Vs(Min)(V): 5; DatasheetVersion: SLOS320F; PackageVersion: 4040047-3/M, 06/2011; PackageReference: D8; PackageDescription: 8-Pin Plastic Small Outline, Body 4.9 x 3.9 mm, Pitch 1.27 mm; Supplier 1: Digi-Key; Supplier Part Number 1: THS4141CDR-ND; Supplier 2: Mouser; Supplier Part Number 2: 595-THS4141CDR; Eco-Plan: Green (RoHS & no Sb/Br); Io(Typ)(mA): 85; Number of Channels: 1; Vio(Max)(mV): 7; Mounting Technology: Surface Mount; Code_JEDEC: MS-012; ComponentLink1Description: Manufacturer URL; ComponentLink1URL: http://www.ti.com/; ComponentLink2Description: Datasheet; ComponentLink2URL: http://www.ti.com/general/docs/lit/getliterature.tsp?genericPartNumber=THS4141&fileType=pdf; ComponentLink3Description: Package Specification; ComponentLink3URL: http://www.ti.com/litv/pdf/msoi002j
footprint TI-D8_N (SOIC, 8-Leads, Body 4.9x3.9mm, Pitch 1.27mm, IPC Medium Density)
footprint TI-D8_L (SOIC, 8-Leads, Body 4.9x3.9mm, Pitch 1.27mm, IPC High Density)
footprint TI-D8_M (SOIC, 8-Leads, Body 4.9x3.9mm, Pitch 1.27mm, IPC Low Density)
pins: 1 VIN- (in), 2 VOCM (in), 3 VCC+ (power), 4 VOUT+ (out), 5 VOUT- (out), 6 VCC- (power), 7 NC, 8 VIN+ (in)

## THS4141CDRG4
designator U?
Fully Differential Input / Output High Slew Rate Amplifier, 5 to 30 V, 0 to 70 degC, 8-pin SOIC (D8), Green (RoHS & no Sb/Br); Manufacturer: Texas Instruments; PartNumber: THS4141CDRG4; 2nd Harmonic(dBc): 85; 3rd Harmonic(dBc): 79; @ MHz: 1; BW @ Acl(MHz): 160; Iq per channel(Max)(mA): 16; Offset Voltage Drift (+/-)(Max)(uV/Degrees Celsius: 7; Settling Time (0.1%)(Typ)(ns): 96; Slew Rate(Typ)(V/us): 450; SubFamily: Fully Differential Amplifier; THD (Fc is 1 MHz)(Typ)(dB): -78; Vn at Flatband(Typ)(nV/rtHz): 6.5; Vs(Max)(V): 30; Vs(Min)(V): 5; DatasheetVersion: SLOS320F; PackageVersion: 4040047-3/M, 06/2011; PackageReference: D8; PackageDescription: 8-Pin Plastic Small Outline, Body 4.9 x 3.9 mm, Pitch 1.27 mm; Supplier 1: Digi-Key; Supplier Part Number 1: THS4141CDRG4-ND; Supplier 2: Mouser; Supplier Part Number 2: 595-THS4141CDRG4; Eco-Plan: Green (RoHS & no Sb/Br); Io(Typ)(mA): 85; Number of Channels: 1; Vio(Max)(mV): 7; Mounting Technology: Surface Mount; Code_JEDEC: MS-012; ComponentLink1Description: Manufacturer URL; ComponentLink1URL: http://www.ti.com/; ComponentLink2Description: Datasheet; ComponentLink2URL: http://www.ti.com/general/docs/lit/getliterature.tsp?genericPartNumber=THS4141&fileType=pdf; ComponentLink3Description: Package Specification; ComponentLink3URL: http://www.ti.com/litv/pdf/msoi002j
footprint TI-D8_N (SOIC, 8-Leads, Body 4.9x3.9mm, Pitch 1.27mm, IPC Medium Density)
footprint TI-D8_L (SOIC, 8-Leads, Body 4.9x3.9mm, Pitch 1.27mm, IPC High Density)
footprint TI-D8_M (SOIC, 8-Leads, Body 4.9x3.9mm, Pitch 1.27mm, IPC Low Density)
pins: 1 VIN- (in), 2 VOCM (in), 3 VCC+ (power), 4 VOUT+ (out), 5 VOUT- (out), 6 VCC- (power), 7 NC, 8 VIN+ (in)

## THS4141ID
designator U?
Fully Differential Input / Output High Slew Rate Amplifier, 5 to 30 V, -40 to 85 degC, 8-pin SOIC (D8), Green (RoHS & no Sb/Br); Manufacturer: Texas Instruments; PartNumber: THS4141ID; 2nd Harmonic(dBc): 85; 3rd Harmonic(dBc): 79; @ MHz: 1; BW @ Acl(MHz): 160; Iq per channel(Max)(mA): 16; Offset Voltage Drift (+/-)(Max)(uV/Degrees Celsius: 7; Settling Time (0.1%)(Typ)(ns): 96; Slew Rate(Typ)(V/us): 450; SubFamily: Fully Differential Amplifier; THD (Fc is 1 MHz)(Typ)(dB): -78; Vn at Flatband(Typ)(nV/rtHz): 6.5; Vs(Max)(V): 30; Vs(Min)(V): 5; DatasheetVersion: SLOS320F; PackageVersion: 4040047-3/M, 06/2011; PackageReference: D8; PackageDescription: 8-Pin Plastic Small Outline, Body 4.9 x 3.9 mm, Pitch 1.27 mm; Supplier 1: Digi-Key; Supplier Part Number 1: 296-7556-5-ND; Supplier 2: Newark; Supplier Part Number 2: 29C2024; Supplier 3: Mouser; Supplier Part Number 3: 595-THS4141ID; Eco-Plan: Green (RoHS & no Sb/Br); Io(Typ)(mA): 85; Number of Channels: 1; Vio(Max)(mV): 7; Mounting Technology: Surface Mount; Code_JEDEC: MS-012; ComponentLink1Description: Manufacturer URL; ComponentLink1URL: http://www.ti.com/; ComponentLink2Description: Datasheet; ComponentLink2URL: http://www.ti.com/general/docs/lit/getliterature.tsp?genericPartNumber=THS4141&fileType=pdf; ComponentLink3Description: Package Specification; ComponentLink3URL: http://www.ti.com/litv/pdf/msoi002j
footprint TI-D8_N (SOIC, 8-Leads, Body 4.9x3.9mm, Pitch 1.27mm, IPC Medium Density)
footprint TI-D8_L (SOIC, 8-Leads, Body 4.9x3.9mm, Pitch 1.27mm, IPC High Density)
footprint TI-D8_M (SOIC, 8-Leads, Body 4.9x3.9mm, Pitch 1.27mm, IPC Low Density)
pins: 1 VIN- (in), 2 VOCM (in), 3 VCC+ (power), 4 VOUT+ (out), 5 VOUT- (out), 6 VCC- (power), 7 NC, 8 VIN+ (in)

## THS4141IDG4
designator U?
Fully Differential Input / Output High Slew Rate Amplifier, 5 to 30 V, -40 to 85 degC, 8-pin SOIC (D8), Green (RoHS & no Sb/Br); Manufacturer: Texas Instruments; PartNumber: THS4141IDG4; 2nd Harmonic(dBc): 85; 3rd Harmonic(dBc): 79; @ MHz: 1; BW @ Acl(MHz): 160; Iq per channel(Max)(mA): 16; Offset Voltage Drift (+/-)(Max)(uV/Degrees Celsius: 7; Settling Time (0.1%)(Typ)(ns): 96; Slew Rate(Typ)(V/us): 450; SubFamily: Fully Differential Amplifier; THD (Fc is 1 MHz)(Typ)(dB): -78; Vn at Flatband(Typ)(nV/rtHz): 6.5; Vs(Max)(V): 30; Vs(Min)(V): 5; DatasheetVersion: SLOS320F; PackageVersion: 4040047-3/M, 06/2011; PackageReference: D8; PackageDescription: 8-Pin Plastic Small Outline, Body 4.9 x 3.9 mm, Pitch 1.27 mm; Supplier 1: Digi-Key; Supplier Part Number 1: THS4141IDG4-ND; Supplier 2: Mouser; Supplier Part Number 2: 595-THS4141IDG4; Eco-Plan: Green (RoHS & no Sb/Br); Io(Typ)(mA): 85; Number of Channels: 1; Vio(Max)(mV): 7; Mounting Technology: Surface Mount; Code_JEDEC: MS-012; ComponentLink1Description: Manufacturer URL; ComponentLink1URL: http://www.ti.com/; ComponentLink2Description: Datasheet; ComponentLink2URL: http://www.ti.com/general/docs/lit/getliterature.tsp?genericPartNumber=THS4141&fileType=pdf; ComponentLink3Description: Package Specification; ComponentLink3URL: http://www.ti.com/litv/pdf/msoi002j
footprint TI-D8_N (SOIC, 8-Leads, Body 4.9x3.9mm, Pitch 1.27mm, IPC Medium Density)
footprint TI-D8_L (SOIC, 8-Leads, Body 4.9x3.9mm, Pitch 1.27mm, IPC High Density)
footprint TI-D8_M (SOIC, 8-Leads, Body 4.9x3.9mm, Pitch 1.27mm, IPC Low Density)
pins: 1 VIN- (in), 2 VOCM (in), 3 VCC+ (power), 4 VOUT+ (out), 5 VOUT- (out), 6 VCC- (power), 7 NC, 8 VIN+ (in)

## THS4141IDGK
designator U?
Fully Differential Input / Output High Slew Rate Amplifier, 5 to 30 V, -40 to 85 degC, 8-pin SOP (DGK8), Green (RoHS & no Sb/Br); Manufacturer: Texas Instruments; PartNumber: THS4141IDGK; 2nd Harmonic(dBc): 85; 3rd Harmonic(dBc): 79; @ MHz: 1; BW @ Acl(MHz): 160; Iq per channel(Max)(mA): 16; Offset Voltage Drift (+/-)(Max)(uV/Degrees Celsius: 7; Settling Time (0.1%)(Typ)(ns): 96; Slew Rate(Typ)(V/us): 450; SubFamily: Fully Differential Amplifier; THD (Fc is 1 MHz)(Typ)(dB): -78; Vn at Flatband(Typ)(nV/rtHz): 6.5; Vs(Max)(V): 30; Vs(Min)(V): 5; DatasheetVersion: SLOS320F; PackageVersion: 4073329/E, 05/2006; PackageReference: DGK8; PackageDescription: 8-Pin Thin Small Outline, Body 3 x 3 mm, Pitch 0.65 mm; Supplier 1: Digi-Key; Supplier Part Number 1: 296-16779-5-ND; Supplier 2: Mouser; Supplier Part Number 2: 595-THS4141IDGK; Eco-Plan: Green (RoHS & no Sb/Br); Io(Typ)(mA): 85; Number of Channels: 1; Vio(Max)(mV): 7; Mounting Technology: Surface Mount; Code_JEDEC: MO-187; ComponentLink1Description: Manufacturer URL; ComponentLink1URL: http://www.ti.com/; ComponentLink2Description: Datasheet; ComponentLink2URL: http://www.ti.com/general/docs/lit/getliterature.tsp?genericPartNumber=THS4141&fileType=pdf; ComponentLink3Description: Package Specification; ComponentLink3URL: http://www.ti.com/litv/pdf/mpds028d
footprint TI-DGK8_N (SOP, 8-Leads, Body 3x3mm, Pitch 0.65mm, IPC Medium Density)
footprint TI-DGK8_L (SOP, 8-Leads, Body 3x3mm, Pitch 0.65mm, IPC High Density)
footprint TI-DGK8_M (SOP, 8-Leads, Body 3x3mm, Pitch 0.65mm, IPC Low Density)
pins: 1 VIN- (in), 2 VOCM (in), 3 VCC+ (power), 4 VOUT+ (out), 5 VOUT- (out), 6 VCC- (power), 7 NC, 8 VIN+ (in)

## THS4141IDGKG4
designator U?
Fully Differential Input / Output High Slew Rate Amplifier, 5 to 30 V, -40 to 85 degC, 8-pin SOP (DGK8), Green (RoHS & no Sb/Br); Manufacturer: Texas Instruments; PartNumber: THS4141IDGKG4; 2nd Harmonic(dBc): 85; 3rd Harmonic(dBc): 79; @ MHz: 1; BW @ Acl(MHz): 160; Iq per channel(Max)(mA): 16; Offset Voltage Drift (+/-)(Max)(uV/Degrees Celsius: 7; Settling Time (0.1%)(Typ)(ns): 96; Slew Rate(Typ)(V/us): 450; SubFamily: Fully Differential Amplifier; THD (Fc is 1 MHz)(Typ)(dB): -78; Vn at Flatband(Typ)(nV/rtHz): 6.5; Vs(Max)(V): 30; Vs(Min)(V): 5; DatasheetVersion: SLOS320F; PackageVersion: 4073329/E, 05/2006; PackageReference: DGK8; PackageDescription: 8-Pin Thin Small Outline, Body 3 x 3 mm, Pitch 0.65 mm; Supplier 1: Digi-Key; Supplier Part Number 1: THS4141IDGKG4-ND; Supplier 2: Mouser; Supplier Part Number 2: 595-THS4141IDGKG4; Eco-Plan: Green (RoHS & no Sb/Br); Io(Typ)(mA): 85; Number of Channels: 1; Vio(Max)(mV): 7; Mounting Technology: Surface Mount; Code_JEDEC: MO-187; ComponentLink1Description: Manufacturer URL; ComponentLink1URL: http://www.ti.com/; ComponentLink2Description: Datasheet; ComponentLink2URL: http://www.ti.com/general/docs/lit/getliterature.tsp?genericPartNumber=THS4141&fileType=pdf; ComponentLink3Description: Package Specification; ComponentLink3URL: http://www.ti.com/litv/pdf/mpds028d
footprint TI-DGK8_N (SOP, 8-Leads, Body 3x3mm, Pitch 0.65mm, IPC Medium Density)
footprint TI-DGK8_L (SOP, 8-Leads, Body 3x3mm, Pitch 0.65mm, IPC High Density)
footprint TI-DGK8_M (SOP, 8-Leads, Body 3x3mm, Pitch 0.65mm, IPC Low Density)
pins: 1 VIN- (in), 2 VOCM (in), 3 VCC+ (power), 4 VOUT+ (out), 5 VOUT- (out), 6 VCC- (power), 7 NC, 8 VIN+ (in)

## THS4141IDGN
designator U?
Fully Differential Input / Output High Slew Rate Amplifier, 5 to 30 V, -40 to 85 degC, 8-pin SOP (DGN8), Green (RoHS & no Sb/Br); Manufacturer: Texas Instruments; PartNumber: THS4141IDGN; 2nd Harmonic(dBc): 85; 3rd Harmonic(dBc): 79; @ MHz: 1; BW @ Acl(MHz): 160; Iq per channel(Max)(mA): 16; Offset Voltage Drift (+/-)(Max)(uV/Degrees Celsius: 7; Settling Time (0.1%)(Typ)(ns): 96; Slew Rate(Typ)(V/us): 450; SubFamily: Fully Differential Amplifier; THD (Fc is 1 MHz)(Typ)(dB): -78; Vn at Flatband(Typ)(nV/rtHz): 6.5; Vs(Max)(V): 30; Vs(Min)(V): 5; DatasheetVersion: SLOS320F; PackageVersion: 4073271/F, 05/2011; PackageReference: DGN8-1760X1425TP; PackageDescription: 8-Pin Plastic Small Outline, Body 3 x 3 mm, Pitch 0.65 mm; Supplier 1: Digi-Key; Supplier Part Number 1: 296-34219-5-ND; Supplier 2: Newark; Supplier Part Number 2: 76C6429; Supplier 3: Mouser; Supplier Part Number 3: 595-THS4141IDGN; Eco-Plan: Green (RoHS & no Sb/Br); Io(Typ)(mA): 85; Number of Channels: 1; Vio(Max)(mV): 7; Mounting Technology: Surface Mount; Code_JEDEC: MO-187; ComponentLink1Description: Manufacturer URL; ComponentLink1URL: http://www.ti.com/; ComponentLink2Description: Datasheet; ComponentLink2URL: http://www.ti.com/general/docs/lit/getliterature.tsp?genericPartNumber=THS4141&fileType=pdf; ComponentLink3Description: Package Specification; ComponentLink3URL: http://www.ti.com/litv/pdf/mpds046e
footprint TI-DGN8-1760X1425TP_N (SOP, 8-Leads, Body 3x3mm, Pitch 0.65mm, Thermal Pad 1.76x1.425mm, IPC Medium Density)
footprint TI-DGN8-1760X1425TP_L (SOP, 8-Leads, Body 3x3mm, Pitch 0.65mm, Thermal Pad 1.76x1.425mm, IPC High Density)
footprint TI-DGN8-1760X1425TP_M (SOP, 8-Leads, Body 3x3mm, Pitch 0.65mm, Thermal Pad 1.76 x 1.425 mm, IPC Low Density)
pins: 1 VIN- (in), 2 VOCM (in), 3 VCC+ (power), 4 VOUT+ (out), 5 VOUT- (out), 6 VCC- (power), 7 NC, 8 VIN+ (in), 9 EP

## THS4141IDGNG4
designator U?
Fully Differential Input / Output High Slew Rate Amplifier, 5 to 30 V, -40 to 85 degC, 8-pin SOP (DGN8), Green (RoHS & no Sb/Br); Manufacturer: Texas Instruments; PartNumber: THS4141IDGNG4; 2nd Harmonic(dBc): 85; 3rd Harmonic(dBc): 79; @ MHz: 1; BW @ Acl(MHz): 160; Iq per channel(Max)(mA): 16; Offset Voltage Drift (+/-)(Max)(uV/Degrees Celsius: 7; Settling Time (0.1%)(Typ)(ns): 96; Slew Rate(Typ)(V/us): 450; SubFamily: Fully Differential Amplifier; THD (Fc is 1 MHz)(Typ)(dB): -78; Vn at Flatband(Typ)(nV/rtHz): 6.5; Vs(Max)(V): 30; Vs(Min)(V): 5; DatasheetVersion: SLOS320F; PackageVersion: 4073271/F, 05/2011; PackageReference: DGN8-1760X1425TP; PackageDescription: 8-Pin Plastic Small Outline, Body 3 x 3 mm, Pitch 0.65 mm; Supplier 1: Digi-Key; Supplier Part Number 1: THS4141IDGNG4-ND; Supplier 2: Mouser; Supplier Part Number 2: 595-THS4141IDGNG4; Eco-Plan: Green (RoHS & no Sb/Br); Io(Typ)(mA): 85; Number of Channels: 1; Vio(Max)(mV): 7; Mounting Technology: Surface Mount; Code_JEDEC: MO-187; ComponentLink1Description: Manufacturer URL; ComponentLink1URL: http://www.ti.com/; ComponentLink2Description: Datasheet; ComponentLink2URL: http://www.ti.com/general/docs/lit/getliterature.tsp?genericPartNumber=THS4141&fileType=pdf; ComponentLink3Description: Package Specification; ComponentLink3URL: http://www.ti.com/litv/pdf/mpds046e
footprint TI-DGN8-1760X1425TP_N (SOP, 8-Leads, Body 3x3mm, Pitch 0.65mm, Thermal Pad 1.76x1.425mm, IPC Medium Density)
footprint TI-DGN8-1760X1425TP_L (SOP, 8-Leads, Body 3x3mm, Pitch 0.65mm, Thermal Pad 1.76x1.425mm, IPC High Density)
footprint TI-DGN8-1760X1425TP_M (SOP, 8-Leads, Body 3x3mm, Pitch 0.65mm, Thermal Pad 1.76 x 1.425 mm, IPC Low Density)
pins: 1 VIN- (in), 2 VOCM (in), 3 VCC+ (power), 4 VOUT+ (out), 5 VOUT- (out), 6 VCC- (power), 7 NC, 8 VIN+ (in), 9 EP

## THS4141IDGNR
designator U?
Fully Differential Input / Output High Slew Rate Amplifier, 5 to 30 V, -40 to 85 degC, 8-pin SOP (DGN8), Green (RoHS & no Sb/Br); Manufacturer: Texas Instruments; PartNumber: THS4141IDGNR; 2nd Harmonic(dBc): 85; 3rd Harmonic(dBc): 79; @ MHz: 1; BW @ Acl(MHz): 160; Iq per channel(Max)(mA): 16; Offset Voltage Drift (+/-)(Max)(uV/Degrees Celsius: 7; Settling Time (0.1%)(Typ)(ns): 96; Slew Rate(Typ)(V/us): 450; SubFamily: Fully Differential Amplifier; THD (Fc is 1 MHz)(Typ)(dB): -78; Vn at Flatband(Typ)(nV/rtHz): 6.5; Vs(Max)(V): 30; Vs(Min)(V): 5; DatasheetVersion: SLOS320F; PackageVersion: 4073271/F, 05/2011; PackageReference: DGN8-1760X1425TP; PackageDescription: 8-Pin Plastic Small Outline, Body 3 x 3 mm, Pitch 0.65 mm; Supplier 1: Digi-Key; Supplier Part Number 1: 296-12302-2-ND; Supplier 2: Digi-Key; Supplier Part Number 2: 296-12302-1-ND; Supplier 3: Digi-Key; Supplier Part Number 3: 296-12302-6-ND; Supplier 4: Newark; Supplier Part Number 4: 76C6430; Supplier 5: Mouser; Supplier Part Number 5: 595-THS4141IDGNR; Eco-Plan: Green (RoHS & no Sb/Br); Io(Typ)(mA): 85; Number of Channels: 1; Vio(Max)(mV): 7; Mounting Technology: Surface Mount; Code_JEDEC: MO-187; ComponentLink1Description: Manufacturer URL; ComponentLink1URL: http://www.ti.com/; ComponentLink2Description: Datasheet; ComponentLink2URL: http://www.ti.com/general/docs/lit/getliterature.tsp?genericPartNumber=THS4141&fileType=pdf; ComponentLink3Description: Package Specification; ComponentLink3URL: http://www.ti.com/litv/pdf/mpds046e
footprint TI-DGN8-1760X1425TP_N (SOP, 8-Leads, Body 3x3mm, Pitch 0.65mm, Thermal Pad 1.76x1.425mm, IPC Medium Density)
footprint TI-DGN8-1760X1425TP_L (SOP, 8-Leads, Body 3x3mm, Pitch 0.65mm, Thermal Pad 1.76x1.425mm, IPC High Density)
footprint TI-DGN8-1760X1425TP_M (SOP, 8-Leads, Body 3x3mm, Pitch 0.65mm, Thermal Pad 1.76 x 1.425 mm, IPC Low Density)
pins: 1 VIN- (in), 2 VOCM (in), 3 VCC+ (power), 4 VOUT+ (out), 5 VOUT- (out), 6 VCC- (power), 7 NC, 8 VIN+ (in), 9 EP

## THS4141IDGNRG4
designator U?
Fully Differential Input / Output High Slew Rate Amplifier, 5 to 30 V, -40 to 85 degC, 8-pin SOP (DGN8), Green (RoHS & no Sb/Br); Manufacturer: Texas Instruments; PartNumber: THS4141IDGNRG4; 2nd Harmonic(dBc): 85; 3rd Harmonic(dBc): 79; @ MHz: 1; BW @ Acl(MHz): 160; Iq per channel(Max)(mA): 16; Offset Voltage Drift (+/-)(Max)(uV/Degrees Celsius: 7; Settling Time (0.1%)(Typ)(ns): 96; Slew Rate(Typ)(V/us): 450; SubFamily: Fully Differential Amplifier; THD (Fc is 1 MHz)(Typ)(dB): -78; Vn at Flatband(Typ)(nV/rtHz): 6.5; Vs(Max)(V): 30; Vs(Min)(V): 5; DatasheetVersion: SLOS320F; PackageVersion: 4073271/F, 05/2011; PackageReference: DGN8-1760X1425TP; PackageDescription: 8-Pin Plastic Small Outline, Body 3 x 3 mm, Pitch 0.65 mm; Supplier 1: Digi-Key; Supplier Part Number 1: THS4141IDGNRG4-ND; Supplier 2: Mouser; Supplier Part Number 2: 595-THS4141IDGNRG4; Eco-Plan: Green (RoHS & no Sb/Br); Io(Typ)(mA): 85; Number of Channels: 1; Vio(Max)(mV): 7; Mounting Technology: Surface Mount; Code_JEDEC: MO-187; ComponentLink1Description: Manufacturer URL; ComponentLink1URL: http://www.ti.com/; ComponentLink2Description: Datasheet; ComponentLink2URL: http://www.ti.com/general/docs/lit/getliterature.tsp?genericPartNumber=THS4141&fileType=pdf; ComponentLink3Description: Package Specification; ComponentLink3URL: http://www.ti.com/litv/pdf/mpds046e
footprint TI-DGN8-1760X1425TP_N (SOP, 8-Leads, Body 3x3mm, Pitch 0.65mm, Thermal Pad 1.76x1.425mm, IPC Medium Density)
footprint TI-DGN8-1760X1425TP_L (SOP, 8-Leads, Body 3x3mm, Pitch 0.65mm, Thermal Pad 1.76x1.425mm, IPC High Density)
footprint TI-DGN8-1760X1425TP_M (SOP, 8-Leads, Body 3x3mm, Pitch 0.65mm, Thermal Pad 1.76 x 1.425 mm, IPC Low Density)
pins: 1 VIN- (in), 2 VOCM (in), 3 VCC+ (power), 4 VOUT+ (out), 5 VOUT- (out), 6 VCC- (power), 7 NC, 8 VIN+ (in), 9 EP